# EAGLE library part TIL199 (library optocoupler)
TEXAS INSTRUMENTS OPTO COUPLER
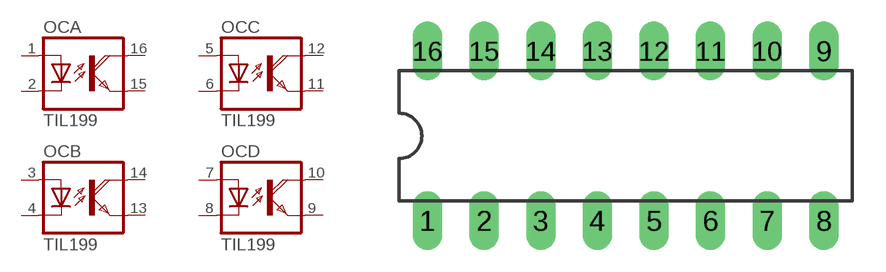
[diagram p9: symbol with the pads of DIL16; footprint DIL16]

Designator prefix OC; gates A=OK-D B=OK-D C=OK-D D=OK-D

## TIL199  [DIL16]
1  A:A  pas
2  A:C  pas
3  B:A  pas
4  B:C  pas
5  C:A  pas
6  C:C  pas
7  D:A  pas
8  D:C  pas
9  D:EMI  pas
10  D:COL  pas
11  C:EMI  pas
12  C:COL  pas
13  B:EMI  pas
14  B:COL  pas
15  A:EMI  pas
16  A:COL  pas

## Footprint DIL16 (pad centres in mm)
Dual In Line Package
drill 0.813 long: 1 -8.89,-3.81; 2 -6.35,-3.81; 3 -3.81,-3.81; 4 -1.27,-3.81; 5 1.27,-3.81; 6 3.81,-3.81; 7 6.35,-3.81; 8 8.89,-3.81; 9 8.89,3.81; 10 6.35,3.81; 11 3.81,3.81; 12 1.27,3.81; 13 -1.27,3.81; 14 -3.81,3.81; 15 -6.35,3.81; 16 -8.89,3.81